# EAGLE library part SMART_SWITCH (library SKAARHOJ)
SMARTSWITCH IS15DSBFP4RGB www.nkksmartswitch.com
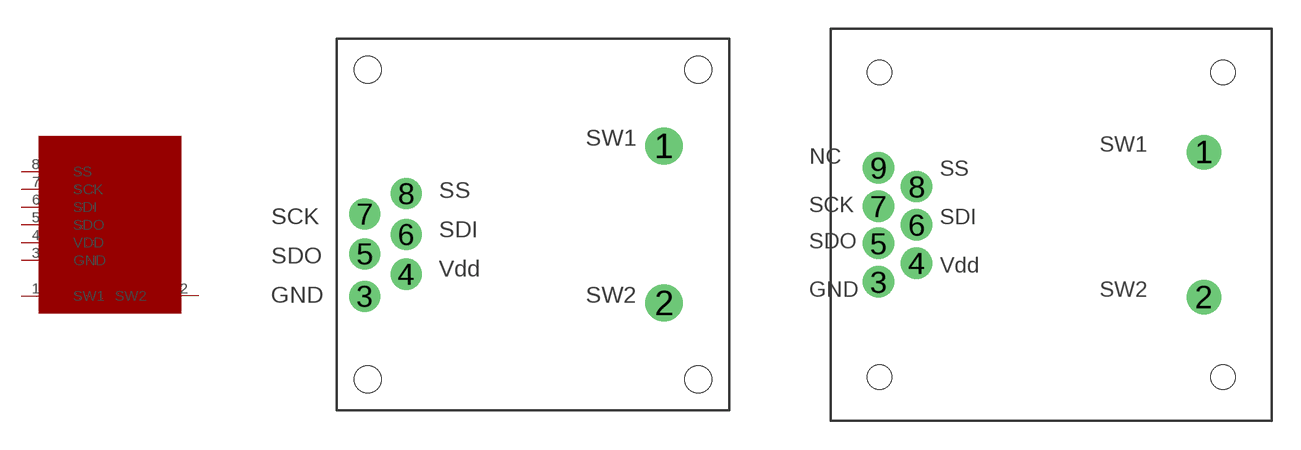
[diagram p5: symbol with the pads of SMART_SWITCH; footprints SMART_SWITCH, SMART_SWITCH_9PIN]

Designator prefix -

## SMART_SWITCHSMART_SWITCH_8PIN  [SMART_SWITCH]
1  SW1
2  SW2
3  GND
4  VDD
5  SDO
6  SDI
7  SCK
8  SS

## SMART_SWITCHSMART_SWITCH_9PIN  [SMART_SWITCH_9PIN]
Pads as for SMART_SWITCH

## Footprint SMART_SWITCH (pad centres in mm)
drill 1.2: 1 6.35,3.81; 2 6.35,-3.81
drill 1: 3 -8.153,-3.48; 4 -6.147,-2.413; 5 -8.153,-1.422; 6 -6.147,-0.483; 7 -8.153,0.508; 8 -6.147,1.499
hole 1.3 at -8.001,7.506
hole 1.3 at 8.001,7.506
hole 1.3 at 8.001,-7.506
hole 1.3 at -8.001,-7.506

## Footprint SMART_SWITCH_9PIN (pad centres in mm)
drill 1.2: 1 8.001,3.81; 2 8.001,-3.81
drill 1.1: 3 -9.068,-2.997; 4 -7.061,-2.007; 5 -9.068,-0.978; 6 -7.061,0; 7 -9.068,0.978; 8 -7.061,2.007; 9 -9.068,2.997
hole 1.3 at -9.004,8.001
hole 1.3 at 9.004,8.001
hole 1.3 at 9.004,-8.001
hole 1.3 at -9.004,-8.001